# EAGLE library part SRAM_DUALP_1KX8_AM2130-10PC (library 07-Retrocomputing)
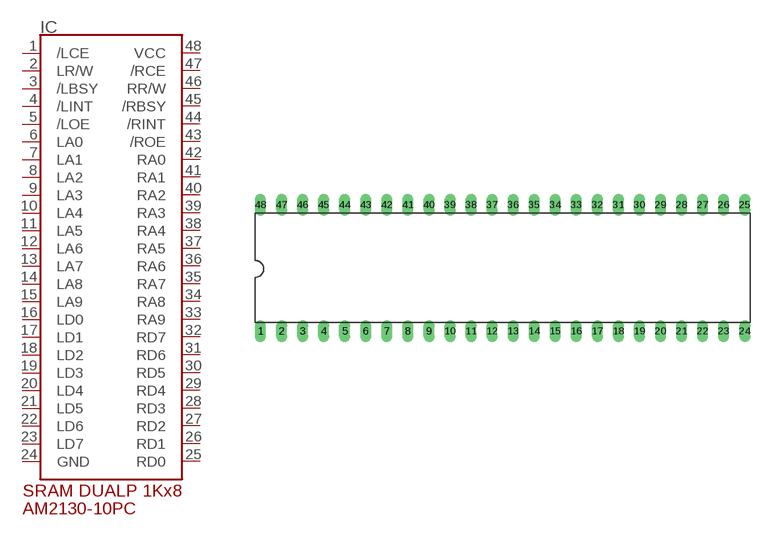
[diagram p11: symbol with the pads of DIL48; footprint DIL48]

Designator prefix IC

## SRAM_DUALP_1KX8_AM2130-10PC  [DIL48]
1  /LCE
2  LR/W
3  /LBSY
4  /LINT
5  /LOE
6  LA0
7  LA1
8  LA2
9  LA3
10  LA4
11  LA5
12  LA6
13  LA7
14  LA8
15  LA9
16  LD0
17  LD1
18  LD2
19  LD3
20  LD4
21  LD5
22  LD6
23  LD7
24  GND
25  RD0
26  RD1
27  RD2
28  RD3
29  RD4
30  RD5
31  RD6
32  RD7
33  RA9
34  RA8
35  RA7
36  RA6
37  RA5
38  RA4
39  RA3
40  RA2
41  RA1
42  RA0
43  /ROE
44  /RINT
45  /RBSY
46  RR/W
47  /RCE
48  VCC

## Footprint DIL48 (pad centres in mm)
Dual In Line Package
drill 0.813 long: 1 -29.21,-7.62; 2 -26.67,-7.62; 3 -24.13,-7.62; 4 -21.59,-7.62; 5 -19.05,-7.62; 6 -16.51,-7.62; 7 -13.97,-7.62; 8 -11.43,-7.62; 9 -8.89,-7.62; 10 -6.35,-7.62; 11 -3.81,-7.62; 12 -1.27,-7.62; 13 1.27,-7.62; 14 3.81,-7.62; 15 6.35,-7.62; 16 8.89,-7.62; 17 11.43,-7.62; 18 13.97,-7.62; 19 16.51,-7.62; 20 19.05,-7.62; 21 21.59,-7.62; 22 24.13,-7.62; 23 26.67,-7.62; 24 29.21,-7.62; 25 29.21,7.62; 26 26.67,7.62; 27 24.13,7.62; 28 21.59,7.62; 29 19.05,7.62; 30 16.51,7.62; 31 13.97,7.62; 32 11.43,7.62; 33 8.89,7.62; 34 6.35,7.62; 35 3.81,7.62; 36 1.27,7.62; 37 -1.27,7.62; 38 -3.81,7.62; 39 -6.35,7.62; 40 -8.89,7.62; 41 -11.43,7.62; 42 -13.97,7.62; 43 -16.51,7.62; 44 -19.05,7.62; 45 -21.59,7.62; 46 -24.13,7.62; 47 -26.67,7.62; 48 -29.21,7.62